# Altium schematic symbol library sch_lib_own_.SchLib: 40 symbols
Pins are listed as number, name and electrical type; pins without a type are passive.

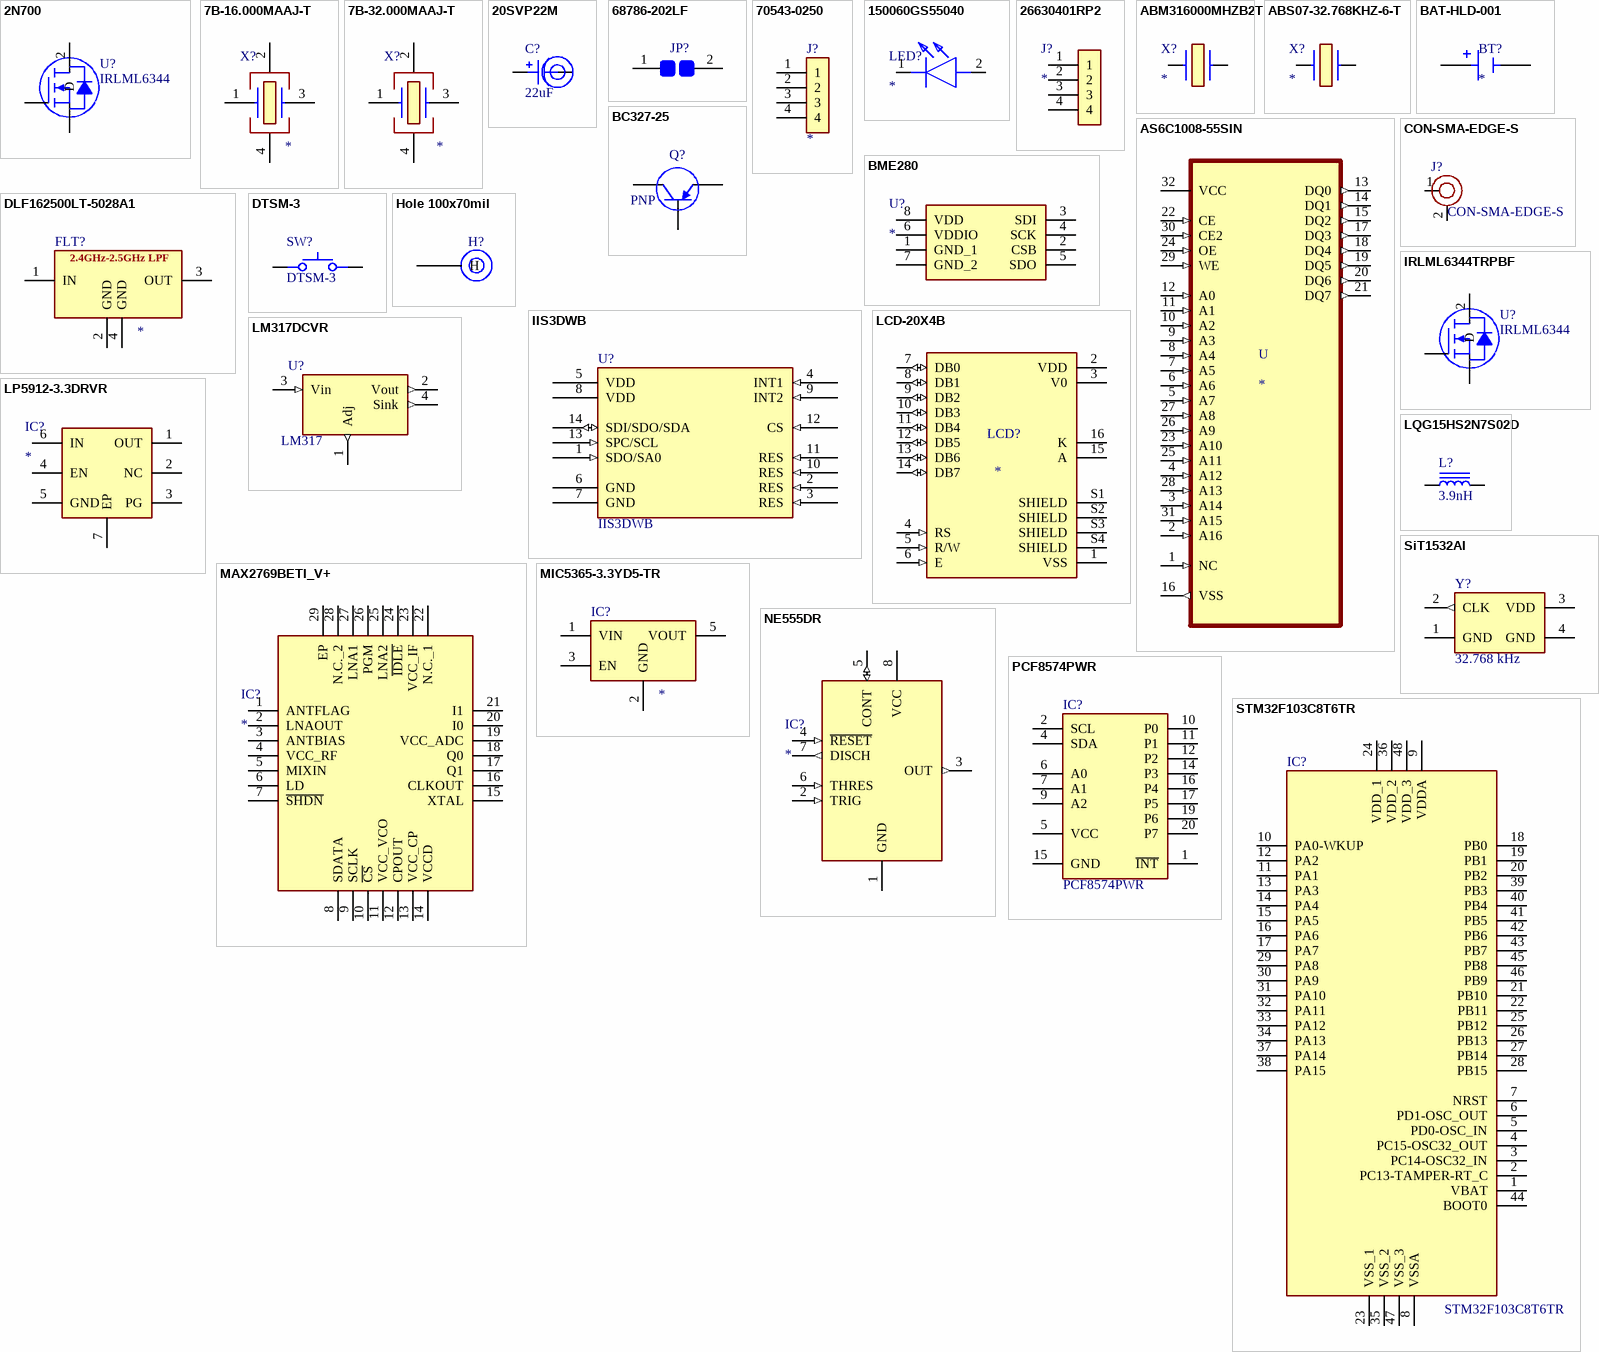
[diagram p0: symbols 2N700 to STM32F103C8T6TR]

## 2N700
designator U?, comment IRLML6344
N-Channel 60V 2A _Ta_ 400mW Surface Mount Micro SOT-23; MF: Infineon Technologies; MP: IRLML6344TRPBF; Package: SOT-23 Infineon; Value: *; Price: None; Availability: Unavailable; SnapEDA_Link: https://www.snapeda.com/parts/IRLML6344TRPBF/Infineon%20Technologies/view-part/1786730/?ref=snap
footprint SOT95P240X112-3N
pins: 1 G, 2 D, 3 S

## 7B-16.000MAAJ-T
designator X?
Crystals 16.000MHz 30ppm -20 +70C 18pF Crystal Oscillator; Manufacturer_Name: TXC CORPORATION; Manufacturer_Part_Number: 7B-16.000MAAJ-T; Datasheet Link: https://componentsearchengine.com/Datasheets/2/7B-16.000MAAJ-T.pdf; Height: 1.05mm; Mouser Part Number: 717-7B-16.000MAAJ-T; Mouser Price/Stock: https://www.mouser.com/Search/Refine.aspx?Keyword=717-7B-16.000MAAJ-T; Arrow Part Number: 7B-16.000MAAJ-T; Arrow Price/Stock: https://www.arrow.com/en/products/7b-16.000maaj-t/txc-corporation
footprint 7B16000MAAJT
pins: 1 CRYSTAL_1, 2 GND_1, 3 CRYSTAL_2, 4 GND_2

## 7B-32.000MAAJ-T
designator X?
Crystals 32.000MHz 30ppm -20 +70C 18pF Crystal Oscillator; Manufacturer_Name: TXC CORPORATION; Manufacturer_Part_Number: 7B-16.000MAAJ-T; Datasheet Link: https://componentsearchengine.com/Datasheets/2/7B-16.000MAAJ-T.pdf; Height: 1.05mm; Mouser Part Number: 717-7B-16.000MAAJ-T; Mouser Price/Stock: https://www.mouser.com/Search/Refine.aspx?Keyword=717-7B-16.000MAAJ-T; Arrow Part Number: 7B-16.000MAAJ-T; Arrow Price/Stock: https://www.arrow.com/en/products/7b-16.000maaj-t/txc-corporation
footprint 7B32000MAAJT
pins: 1 CRYSTAL_1, 2 GND_1, 3 CRYSTAL_2, 4 GND_2

## 20SVP22M
designator C?, comment 22uF
CAP POLYMER 4U7F 20% 16V SMD; Part Number: 20SVP22M; Manufacturer: Panasonic Electronic Components; TemperatureRange: -55C ~ 105C; Voltage: 20V; Ripple Current: 1.45A; Lifetime @ Temp: 2000 Hrs @ 105C; Value: 22uF; PartId: 7510; Supplier 1: Digi-Key; Supplier Part Number 1: P16492TR-ND; ComponentLink1Description: Datasheet; ComponentLink1URL: http://industrial.panasonic.com/www-cgi/jvcr13pz.cgi?E+CI+4+AAB8008+20SVP22M+8+WW; ComponentLink2Description: Digi-Key listing; ComponentLink2URL: http://digikey.com/product-detail/en/20SVP22M/P16492TR-ND/4204824; Tolerance: 20%; Price: 0.605; Type: -; Device Package: Radial, Can - SMD; Impedance: -
footprint CAP ALUM 6.6MM (Aluminum Electrolytic Capacitor, Body 6.60x6.60x7.70mm, IPC Low Density)
pins: 1, 2

## 68786-202LF
designator JP?  (value not drawn)
Jumper Low Profile , Single Row, 2 Positions, 2.54mm (0.100in) Pitch; MF: FCI; MP: 68786-202LF; SnapEDA_Link: https://www.snapeda.com/parts/68786-202LF/Framatome%20Connectors/view-part/4792913/?ref=snap; Price: None; Package: None; Value: *; Check_prices: https://www.snapeda.com/parts/68786-202LF/Framatome%20Connectors/view-part/4792913/?ref=eda; Purchase-URL: https://pricing.snapeda.com/search/part/68786-202LF/?ref=eda; Availability: Good
footprint FCI_68786-202LF
pins: 1, 2

## 70543-0250
designator J?
Connector 1X4 Headers & Wire Housings; Manufacturer_Name: Molex; Manufacturer_Part_Number: 70543-0250; Datasheet Link: https://www.molex.com/pdm_docs/sd/705430250_sd.pdf; Height: 11.94mm; Mouser Part Number: 538-70543-0250; Mouser Price/Stock: https://www.mouser.co.uk/ProductDetail/Molex/70543-0250?qs=kYQSPAH4sJy4tcb7Hig5SQ%3D%3D
footprint 705430250
pins: 1, 2, 3, 4

## 150060GS55040
designator LED?
LED SMD 0603 Green 520nm; Manufacturer_Name: Wurth Elektronik; Manufacturer_Part_Number: 150060GS55040; Datasheet Link: https://katalog.we-online.de/led/datasheet/150060GS55040.pdf; Height: 0.5mm; Mouser Part Number: 710-150060GS55040; Mouser Price/Stock: https://www.mouser.co.uk/ProductDetail/Wurth-Elektronik/150060GS55040?qs=fAHHVMwC%252Bbhr5Aln2oA6Nw%3D%3D
footprint LEDC1608X50N
pins: 1 K, 2 A

## 26630401RP2
designator J?
Connector 1X4; Manufacturer_Name: NorComp; Manufacturer_Part_Number: 26630401RP2; Datasheet Link: https://www.mouser.com/datasheet/2/296/2663YY01RP2-56146.pdf; Height: 5.5626mm; Mouser Part Number: 636-26630401RP2; Mouser Price/Stock: https://www.mouser.co.uk/ProductDetail/NorComp/26630401RP2?qs=TaIhzdgpGpUpNJHiLaUe4g%3D%3D
footprint 26630401RP2
pins: 1, 2, 3, 4

## ABM316000MHZB2T
designator X?
Crystal Oscillator 16 MHz ±20ppm 18pF 40 Ohms Crystal or Oscillator; Manufacturer_Name: ABRACON; Manufacturer_Part_Number: ABM316000MHZB2T; Datasheet Link: https://abracon.com/Resonators/abm3.pdf; Height: 1.3mm
footprint ABM3
pins: 1, 2

## ABS07-32.768KHZ-6-T
designator X?
Crystal Oscillator 32.768 kHz ±10ppm 6pF 50 KOhms Crystal or Oscillator; Manufacturer_Name: ABRACON; Manufacturer_Part_Number: ABM316000MHZB2T; Datasheet Link: https://abracon.com/Resonators/abm3.pdf; Height: 1.3mm
footprint ABM3
pins: 1, 2

## AS6C1008-55SIN
designator U
SRAM - Asynchronous Memory IC 1Mb _128K x 8_ Parallel 55ns 32-SOP; MP: AS6C1008-55SIN; MF: Alliance Memory,; Price: None; Package: SOP-32 Alliance Memory; Availability: Unavailable; SnapEDA_Link: https://www.snapeda.com/parts/AS6C1008-55SIN/Alliance%20Memory,%20Inc./view-part/31744/?ref=snap; Value: *
footprint SOIC127P1407X299-32N (Footprint not found)
footprint SOIC127P1407X299-32N
pins: 1 NC (in), 2 A16 (in), 3 A14 (in), 4 A12 (in), 5 A7 (in), 6 A6 (in), 7 A5 (in), 8 A4 (in), 9 A3 (in), 10 A2 (in), 11 A1 (in), 12 A0 (in), 13 DQ0 (out), 14 DQ1 (out), 15 DQ2 (out), 16 VSS (out), 17 DQ3 (out), 18 DQ4 (out), 19 DQ5 (out), 20 DQ6 (out), 21 DQ7 (out), 22 CE (in), 23 A10 (in), 24 OE (in), 25 A11 (in), 26 A9 (in), 27 A8 (in), 28 A13 (in), 29 WE (in), 30 CE2 (in), 31 A15 (in), 32 VCC (power)

## BAT-HLD-001
designator BT?
Battery Retainer Coin, 20.0mm 1 Cell SMD (SMT) Tab; MP: BAT-HLD-001; Value: *; Package: None; Availability: Unavailable; Price: None
footprint BAT_BAT-HLD-001
pins: N1 NEG, P1 POS, P2 POS

## BC327-25
designator Q?, comment PNP
PNP Bipolar Transistor; Published: 8-Jun-2000; LatestRevisionDate: 29-May-2009; LatestRevisionNote: IPC-7351 Footprint Added.; PackageVersion: Aug-1999; PackageReference: SOT-23B; Publisher: Altium Limited; PackageDescription: 3-Pin SOT-23 Package 0.95 mm Pitch, 2.4 mm Lead Span
footprint SOT-23B_N (SOT23, 3-Leads, Body 2.9x1.3mm, Pitch 0.95mm, Lead Span 2.4mm, IPC Medium Density)
footprint SOT-23B_L (SOT23, 3-Leads, Body 2.9x1.3mm, Pitch 0.95mm, Lead Span 2.4mm, IPC High Density)
footprint SOT-23B_M (SOT23, 3-Leads, Body 2.9x1.3mm, Pitch 0.95mm, Lead Span 2.4mm, IPC Low Density)
simulation model PNP
signal-integrity model PNP
footprint SOT-23B_N (SOT23, 3-Leads, Body 2.9x1.3mm, Pitch 0.95mm, Lead Span 2.4mm, IPC Medium Density)
pins: 1 C, 2 B, 3 E

## BME280
designator U?
MEMS humidity, pressure and temperature sensor
footprint BME280
pins: 1 GND_1, 2 CSB, 3 SDI, 4 SCK, 5 SDO, 6 VDDIO (power), 7 GND_2, 8 VDD (power)

## CON-SMA-EDGE-S
designator J?
RF Connector SMA Female 50 Ohms 18 GHz PCB Edge Mount; Manufacturer: RF Solutions; Manufacturer Part Number: CON-SMA-EDGE-S
footprint CON-SMA-EDGE-S
pins: 1, 2

## DLF162500LT-5028A1
designator FLT?
LTCC Low Pass filter 2400-2500MHz; Manufacturer_Name: TDK; Manufacturer_Part_Number: DLF162500LT-5028A1; Datasheet Link: https://product.tdk.com/system/files/dam/doc/product/rf/rf/filter/catalog/rf_lpf_dlf162500lt-5028a1_en.pdf; Height: 0.4mm; Mouser Part Number: 810-DLF16250LT5028A1; Mouser Price/Stock: https://www.mouser.co.uk/ProductDetail/TDK/DLF162500LT-5028A1?qs=U%2FZX79kHR%2FlwIbAISCs3qA%3D%3D; Arrow Part Number: DLF162500LT-5028A1; Arrow Price/Stock: null?region=nac
footprint DLF162500LT5028A1
pins: 1 IN, 2 GND, 3 OUT, 4 GND
text: 2.4GHz-2.5GHz LPF

## DTSM-3
designator SW?
Tactile Switch SMD SPST; Manufacturer: Diptronics; Manufacturer Part Number: DTSM-3
footprint DTSM-3
pins: 1, 2

## Hole 100x70mil
designator H?  (value not drawn)
100x70mil
footprint Hole 100x70mil
pins: 1 H (power)

## IIS3DWB
designator U?
3-axis digital vibration sensor
footprint PQFN50P250X300X86-14N
pins: 1 SDO/SA0 (in), 2 RES (in), 3 RES (in), 4 INT1 (in), 5 VDD, 6 GND, 7 GND, 8 VDD, 9 INT2 (in), 10 RES (in), 11 RES (in), 12 CS (in), 13 SPC/SCL (in), 14 SDI/SDO/SDA (io)

## IRLML6344TRPBF
designator U?, comment IRLML6344
N-Channel 30V 5A _Ta_ 1.3W _Ta_ Surface Mount Micro3â„¢/SOT-23; MF: Infineon Technologies; MP: IRLML6344TRPBF; Package: SOT-23 Infineon; Value: *; Price: None; Availability: Unavailable; SnapEDA_Link: https://www.snapeda.com/parts/IRLML6344TRPBF/Infineon%20Technologies/view-part/1786730/?ref=snap
footprint SOT95P240X112-3N
pins: 1 G, 2 D, 3 S

## LCD-20X4B
designator LCD?
Display Development Tools 20X4 CHARACTER BLUE LCD W/BACKLIGHT; MP: LCD-20X4B; Value: *; Availability: Unavailable; Price: None; Package: None
footprint LCD_LCD-20X4B
pins: 1 VSS (power), 2 VDD (power), 3 V0 (power), 4 RS (in), 5 R/W (in), 6 E (in), 7 DB0 (io), 8 DB1 (io), 9 DB2 (io), 10 DB3 (io), 11 DB4 (io), 12 DB5 (io), 13 DB6 (io), 14 DB7 (io), 15 A, 16 K, S1 SHIELD, S2 SHIELD, S3 SHIELD, S4 SHIELD

## LM317DCVR
designator U?, comment LM317
Adjustable voltage regulator, 1.5A, output range 1.25 - 37 V
footprint TI SOT-223 DCY (SOT223, 4-Leads, Body 6.50x7.00mm (avg), Pitch 2.30mm, IPC Medium Density)
pins: 1 Adj (out), 2 Vout (out), 3 Vin (in), 4 Sink (out)

## LP5912-3.3DRVR
designator IC?
IC Sensor TempHumPress 3.3V; Manufacturer_Name: Texas Instruments; Manufacturer_Part_Number: LP5912-3.3DRVR; Datasheet Link: http://www.ti.com/lit/gpn/lp5912; Height: 0.8mm; Mouser Part Number: 595-LP5912-3.3DRVR; Mouser Price/Stock: https://www.mouser.co.uk/ProductDetail/Texas-Instruments/LP5912-3.3DRVR?qs=n%252BTO0c4TDSY0RMrHlK%2FGvQ%3D%3D; Arrow Part Number: LP5912-3.3DRVR; Arrow Price/Stock: https://www.arrow.com/en/products/lp5912-3.3drvr/texas-instruments
footprint SON65P200X200X80-7N
pins: 1 OUT, 2 NC, 3 PG, 4 EN, 5 GND, 6 IN, 7 EP

## LQG15HS2N7S02D
designator L?, comment 3.9nH
FIXED IND 2.7NH 800MA 0.15OHM SM; Part Number: LQW15AN3N9D10D; Manufacturer: Murata Electronics North America; TemperatureRange: -55C ~ 125C; Tolerance: 0.5nH; Type: Wirewound; Q at Frequency: 30 @ 250MHz; DC Resistance: 40 mOhm Max; Shielding: Unshielded; Value: 3.9nH; PartId: 6435; Supplier 1: Digi-Key; Supplier Part Number 1: 490-6815-2-ND; ComponentLink1Description: Datasheet; ComponentLink1URL: http://search.murata.co.jp/Ceramy/image/img/PDF/ENG/L0075S0080LQW15A_10.pdf; ComponentLink2Description: Digi-Key listing; ComponentLink2URL: http://digikey.com/product-detail/en/LQW15AN3N9D10D/490-6815-2-ND/2594912; Price: 0.0843; Device Package: 0402 (1005 Metric)
footprint LQG15WH0N7B02D
pins: 1, 2

## MAX2769BETI_V+
designator IC?
IC Unverseal GPS Receiver; Manufacturer_Name: Maxim Integrated; Manufacturer_Part_Number: MAX2769BETI/V+; Datasheet Link: https://pdfserv.maximintegrated.com/en/ds/MAX2769B.pdf; Height: 0.8mm; Mouser Part Number: 700-MAX2769BETI/V+; Mouser Price/Stock: https://www.mouser.com/Search/Refine.aspx?Keyword=700-MAX2769BETI%2FV%2B
footprint QFN50P500X500X80-29N
footprint QFN50P500X500X80-29N
pins: 1 ANTFLAG, 2 LNAOUT, 3 ANTBIAS, 4 VCC_RF, 5 MIXIN, 6 LD, 7 ~{SHDN}, 8 SDATA, 9 SCLK, 10 ~{CS}, 11 VCC_VCO, 12 CPOUT, 13 VCC_CP, 14 VCCD, 15 XTAL, 16 CLKOUT, 17 Q1, 18 Q0, 19 VCC_ADC, 20 I0, 21 I1, 22 N.C._1, 23 VCC_IF, 24 ~{IDLE}, 25 LNA2, 26 PGM, 27 LNA1, 28 N.C._2, 29 EP

## MIC5365-3.3YD5-TR
designator IC?
Integrated Circuit; Manufacturer_Name: Microchip; Manufacturer_Part_Number: MIC5365-3.3YD5-TR; Datasheet Link: https://ww1.microchip.com/downloads/en/DeviceDoc/mic5365.pdf; Height: 1mm; Mouser Part Number: 998-MIC5365-3.3YD5TR; Mouser Price/Stock: https://www.mouser.co.uk/ProductDetail/Microchip-Technology/MIC5365-3.3YD5-TR?qs=U6T8BxXiZAXzRinbbfZRrg%3D%3D; Arrow Part Number: MIC5365-3.3YD5-TR; Arrow Price/Stock: https://www.arrow.com/en/products/mic5365-3.3yd5-tr/microchip-technology?region=nac
footprint SOT95P280X100-5N
pins: 1 VIN, 2 GND, 3 EN, 5 VOUT

## NE555DR
designator IC?
IC Timer/Oscillator (Single); Manufacturer_Name: Texas Instruments; Manufacturer_Part_Number: NE555DR; Datasheet Link: http://www.ti.com/lit/ds/symlink/ne555.pdf; Height: 1.75mm; Mouser Part Number: 595-NE555DR; Mouser Price/Stock: https://www.mouser.com/Search/Refine.aspx?Keyword=595-NE555DR; RS Part Number: 1218414; RS Price/Stock: http://uk.rs-online.com/web/p/products/1218414
footprint SOIC127P600X175-8N
pins: 1 GND (power), 2 TRIG (in), 3 OUT (out), 4 ~{RESET} (in), 5 CONT (io), 6 THRES (in), 7 DISCH (out), 8 VCC (power)

## PCF8574PWR
designator IC?
IC Input/output (I/O) expander; Manufacturer_Name: Texas Instruments; Datasheet Link: http://www.ti.com/lit/ds/symlink/pcf8574.pdf; Height: 1.2mm; Manufacturer_Part_Number: PCF8574PWR; Mouser Part Number: 595-PCF8574PWR; Mouser Price/Stock: https://www.mouser.co.uk/ProductDetail/Texas-Instruments/PCF8574PWR?qs=X1HXWTtiZ0T3gnyuO%2Fq4CA%3D%3D; Arrow Part Number: PCF8574PWR; Arrow Price/Stock: https://www.arrow.com/en/products/pcf8574pwr/texas-instruments?region=nac
footprint SOP65P640X120-20N
pins: 1 ~{INT}, 2 SCL, 4 SDA, 5 VCC, 6 A0, 7 A1, 9 A2, 10 P0, 11 P1, 12 P2, 14 P3, 15 GND, 16 P4, 17 P5, 19 P6, 20 P7

## SiT1532AI
designator Y?, comment 32.768 kHz
Oscilator 32.768KHz, SiT1532AI-J4-DCC-32.768E
footprint SiT1532AIJ4DCC32768E - duplicate
pins: 1 GND, 2 CLK (out), 3 VDD, 4 GND

## STM32F103C8T6TR
designator IC?
MCU 32BIT Cortex M3 USB 7 TIMERS 2 ADCS CAN; Manufacturer_Name: STMicroelectronics; Datasheet Link: http://media.digikey.com/pdf/Data%20Sheets/ST%20Microelectronics%20PDFS/STM32F103x8,B.pdf; Height: 1.6mm; Manufacturer_Part_Number: STM32F103C8T6TR; Mouser Part Number: 511-STM32F103C8T6TR; Mouser Price/Stock: https://www.mouser.co.uk/ProductDetail/STMicroelectronics/STM32F103C8T6TR?qs=5HwTSiuA5HDxFj62n06yag%3D%3D; Arrow Part Number: STM32F103C8T6TR; Arrow Price/Stock: https://www.arrow.com/en/products/stm32f103c8t6tr/stmicroelectronics?region=nac
footprint QFP50P900X900X160-48N
pins: 1 VBAT, 2 PC13-TAMPER-RT_C, 3 PC14-OSC32_IN, 4 PC15-OSC32_OUT, 5 PD0-OSC_IN, 6 PD1-OSC_OUT, 7 NRST, 8 VSSA, 9 VDDA, 10 PA0-WKUP, 11 PA1, 12 PA2, 13 PA3, 14 PA4, 15 PA5, 16 PA6, 17 PA7, 18 PB0, 19 PB1, 20 PB2, 21 PB10, 22 PB11, 23 VSS_1, 24 VDD_1, 25 PB12, 26 PB13, 27 PB14, 28 PB15, 29 PA8, 30 PA9, 31 PA10, 32 PA11, 33 PA12, 34 PA13, 35 VSS_2, 36 VDD_2, 37 PA14, 38 PA15, 39 PB3, 40 PB4, 41 PB5, 42 PB6, 43 PB7, 44 BOOT0, 45 PB8, 46 PB9, 47 VSS_3, 48 VDD_3

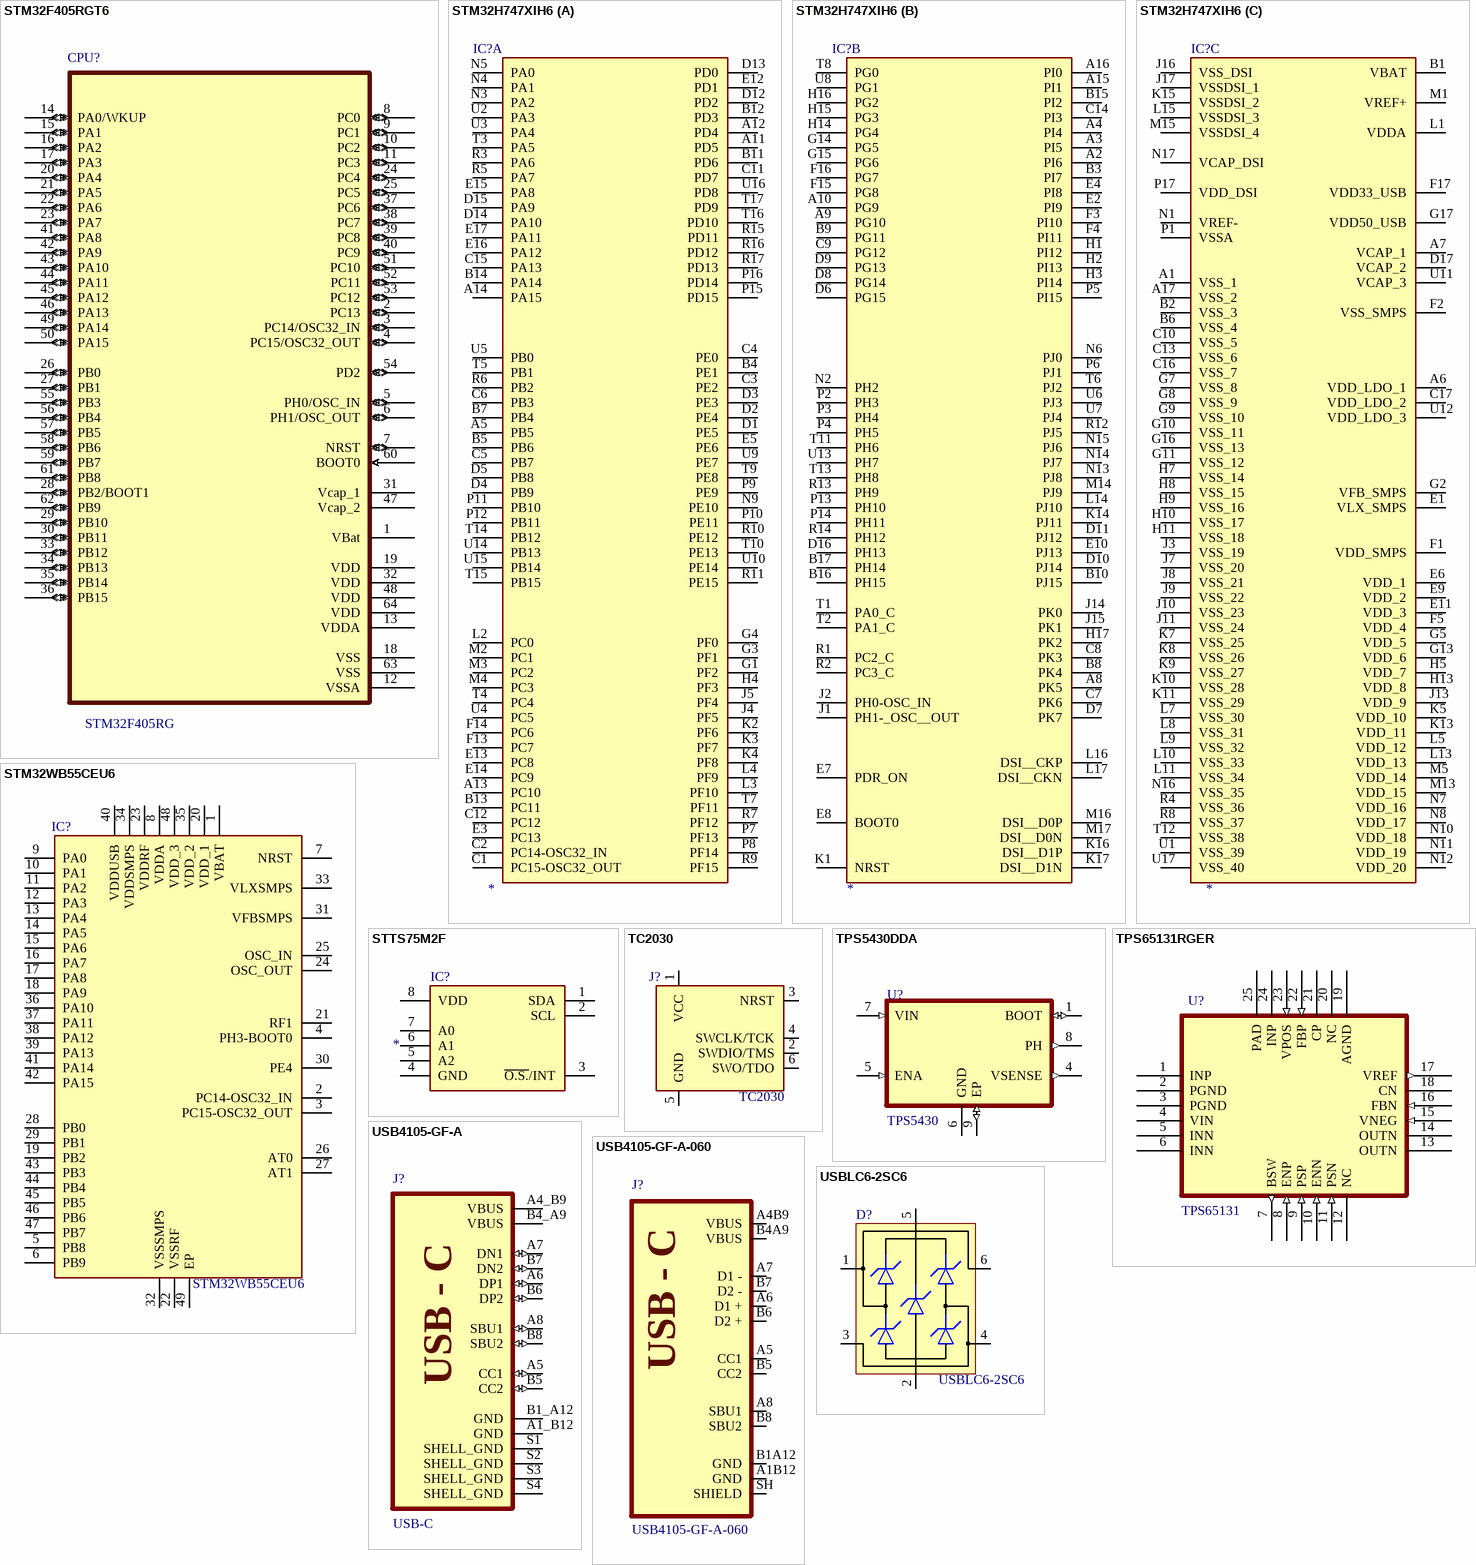
[diagram p1: symbols STM32F405RGT6 to USBLC6-2SC6]

## STM32F405RGT6
designator CPU?, comment STM32F405RG
ARM Microcontrollers - MCU ARM M4 1024 FLASH 168 Mhz 192kB SRAM
footprint LQF64
pins: 1 VBat, 2 PC13 (io), 3 PC14/OSC32_IN (io), 4 PC15/OSC32_OUT (io), 5 PH0/OSC_IN (io), 6 PH1/OSC_OUT (io), 7 NRST (io), 8 PC0 (io), 9 PC1 (io), 10 PC2 (io), 11 PC3 (io), 12 VSSA (power), 13 VDDA, 14 PA0/WKUP (io), 15 PA1 (io), 16 PA2 (io), 17 PA3 (io), 18 VSS, 19 VDD, 20 PA4 (io), 21 PA5 (io), 22 PA6 (io), 23 PA7 (io), 24 PC4 (io), 25 PC5 (io), 26 PB0 (io), 27 PB1 (io), 28 PB2/BOOT1 (io), 29 PB10 (io), 30 PB11 (io), 31 Vcap_1 (power), 32 VDD, 33 PB12 (io), 34 PB13 (io), 35 PB14 (io), 36 PB15 (io), 37 PC6 (io), 38 PC7 (io), 39 PC8 (io), 40 PC9 (io), 41 PA8 (io), 42 PA9 (io), 43 PA10 (io), 44 PA11 (io), 45 PA12 (io), 46 PA13 (io), 47 Vcap_2, 48 VDD, 49 PA14 (io), 50 PA15 (io), 51 PC10 (io), 52 PC11 (io), 53 PC12 (io), 54 PD2 (io), 55 PB3 (io), 56 PB4 (io), 57 PB5 (io), 58 PB6 (io), 59 PB7 (io), 60 BOOT0 (in), 61 PB8 (io), 62 PB9 (io), 63 VSS, 64 VDD

## STM32H747XIH6
designator IC?
CPU Dual core. • 32-bit Arm® Cortex®-M7; Manufacturer_Name: STMicroelectronics; Manufacturer_Part_Number: STM32H747XIH6; Datasheet Link: https://www.st.com/en/microcontrollers-microprocessors/stm32h747xi.html; Height: 1.1mm; Mouser Part Number: 511-STM32H747XIH6; Mouser Price/Stock: https://www.mouser.co.uk/ProductDetail/STMicroelectronics/STM32H747XIH6?qs=vLWxofP3U2xQGncZcDDLHQ%3D%3D; Arrow Part Number: STM32H747XIH6; Arrow Price/Stock: https://www.arrow.com/en/products/stm32h747xih6/stmicroelectronics?region=nac
footprint BGA265C80P17X17_1400X1400X110
part A pins: A5 PB5, A11 PD5, A12 PD4, A13 PC10, A14 PA15, B4 PE1, B5 PB6, B7 PB4, B11 PD6, B12 PD3, B13 PC11, B14 PA14, C1 PC15-OSC32_OUT, C2 PC14-OSC32_IN, C3 PE2, C4 PE0, C5 PB7, C6 PB3, C11 PD7, C12 PC12, C15 PA13, D1 PE5, D2 PE4, D3 PE3, D4 PB9, D5 PB8, D12 PD2, D13 PD0, D14 PA10, D15 PA9, E3 PC13, E5 PE6, E12 PD1, E13 PC8, E14 PC9, E15 PA8, E16 PA12, E17 PA11, F13 PC7, F14 PC6, G1 PF2, G3 PF1, G4 PF0, H4 PF3, J4 PF5, J5 PF4, K2 PF6, K3 PF7, K4 PF8, L2 PC0, L3 PF10, L4 PF9, M2 PC1, M3 PC2, M4 PC3, N3 PA2, N4 PA1, N5 PA0, N9 PE10, P7 PF13, P8 PF14, P9 PE9, P10 PE11, P11 PB10, P12 PB11, P15 PD15, P16 PD14, R3 PA6, R5 PA7, R6 PB2, R7 PF12, R9 PF15, R10 PE12, R11 PE15, R15 PD11, R16 PD12, R17 PD13, T3 PA5, T4 PC4, T5 PB1, T7 PF11, T9 PE8, T10 PE13, T14 PB12, T15 PB15, T16 PD10, T17 PD9, U2 PA3, U3 PA4, U4 PC5, U5 PB0, U9 PE7, U10 PE14, U14 PB13, U15 PB14, U16 PD8
part B pins: A2 PI6, A3 PI5, A4 PI4, A8 PK5, A9 PG10, A10 PG9, A15 PI1, A16 PI0, B3 PI7, B8 PK4, B9 PG11, B10 PJ15, B15 PI2, B16 PH15, B17 PH14, C7 PK6, C8 PK3, C9 PG12, C14 PI3, D6 PG15, D7 PK7, D8 PG14, D9 PG13, D10 PJ14, D11 PJ12, D16 PH13, E2 PI9, E4 PI8, E7 PDR_ON, E8 BOOT0, E10 PJ13, F3 PI10, F4 PI11, F15 PG8, F16 PG7, G14 PG5, G15 PG6, H1 PI12, H2 PI13, H3 PI14, H14 PG4, H15 PG3, H16 PG2, H17 PK2, J1 PH1-_OSC__OUT, J2 PH0-OSC_IN, J14 PK0, J15 PK1, K1 NRST, K14 PJ11, K16 DSI__D1P, K17 DSI__D1N, L14 PJ10, L16 DSI__CKP, L17 DSI__CKN, M14 PJ9, M16 DSI__D0P, M17 DSI__D0N, N2 PH2, N6 PJ0, N13 PJ8, N14 PJ7, N15 PJ6, P2 PH3, P3 PH4, P4 PH5, P5 PI15, P6 PJ1, P13 PH10, P14 PH11, R1 PC2_C, R2 PC3_C, R12 PJ5, R13 PH9, R14 PH12, T1 PA0_C, T2 PA1_C, T6 PJ2, T8 PG0, T11 PH6, T13 PH8, U6 PJ3, U7 PJ4, U8 PG1, U13 PH7
part C pins: A1 VSS_1, A6 VDD_LDO_1, A7 VCAP_1, A17 VSS_2, B1 VBAT, B2 VSS_3, B6 VSS_4, C10 VSS_5, C13 VSS_6, C16 VSS_7, C17 VDD_LDO_2, D17 VCAP_2, E1 VLX_SMPS, E6 VDD_1, E9 VDD_2, E11 VDD_3, F1 VDD_SMPS, F2 VSS_SMPS, F5 VDD_4, F17 VDD33_USB, G2 VFB_SMPS, G5 VDD_5, G7 VSS_8, G8 VSS_9, G9 VSS_10, G10 VSS_11, G11 VSS_12, G13 VDD_6, G16 VSS_13, G17 VDD50_USB, H5 VDD_7, H7 VSS_14, H8 VSS_15, H9 VSS_16, H10 VSS_17, H11 VSS_18, H13 VDD_8, J3 VSS_19, J7 VSS_20, J8 VSS_21, J9 VSS_22, J10 VSS_23, J11 VSS_24, J13 VDD_9, J16 VSS_DSI, J17 VSSDSI_1, K5 VDD_10, K7 VSS_25, K8 VSS_26, K9 VSS_27, K10 VSS_28, K11 VSS_29, K13 VDD_11, K15 VSSDSI_2, L1 VDDA, L5 VDD_12, L7 VSS_30, L8 VSS_31, L9 VSS_32, L10 VSS_33, L11 VSS_34, L13 VDD_13, L15 VSSDSI_3, M1 VREF+, M5 VDD_14, M13 VDD_15, M15 VSSDSI_4, N1 VREF-, N7 VDD_16, N8 VDD_17, N10 VDD_18, N11 VDD_19, N12 VDD_20, N16 VSS_35, N17 VCAP_DSI, P1 VSSA, P17 VDD_DSI, R4 VSS_36, R8 VSS_37, T12 VSS_38, U1 VSS_39, U11 VCAP_3, U12 VDD_LDO_3, U17 VSS_40

## STM32WB55CEU6
designator IC?
MCU Ultra-low-power dual core Arm Cortex-M4 MCU 64 MHz, Cortex-M0+ 32 MHz 512 Kbytes, RF Microcontrollers; Manufacturer_Name: STMicroelectronics; Datasheet Link: https://www.st.com/resource/en/datasheet/stm32wb55rg.pdf; Height: 0.65mm; Manufacturer_Part_Number: STM32WB55CEU6; Mouser Part Number: 511-STM32WB55CEU6; Mouser Price/Stock: https://www.mouser.co.uk/ProductDetail/STMicroelectronics/STM32WB55CEU6?qs=l7cgNqFNU1h38DnIgipayw%3D%3D; Arrow Part Number: STM32WB55CEU6; Arrow Price/Stock: https://www.arrow.com/en/products/stm32wb55ceu6/stmicroelectronics?region=nac
footprint QFN50P700X700X65-49N-D
pins: 1 VBAT, 2 PC14-OSC32_IN, 3 PC15-OSC32_OUT, 4 PH3-BOOT0, 5 PB8, 6 PB9, 7 NRST, 8 VDDA, 9 PA0, 10 PA1, 11 PA2, 12 PA3, 13 PA4, 14 PA5, 15 PA6, 16 PA7, 17 PA8 (power), 18 PA9, 19 PB2, 20 VDD_1, 21 RF1, 22 VSSRF, 23 VDDRF, 24 OSC_OUT, 25 OSC_IN, 26 AT0, 27 AT1, 28 PB0, 29 PB1, 30 PE4, 31 VFBSMPS, 32 VSSSMPS, 33 VLXSMPS, 34 VDDSMPS, 35 VDD_2, 36 PA10, 37 PA11, 38 PA12, 39 PA13, 40 VDDUSB, 41 PA14, 42 PA15, 43 PB3, 44 PB4, 45 PB5, 46 PB6, 47 PB7, 48 VDD_3, 49 EP

## STTS75M2F
designator IC?
IC Temperature sensor; Manufacturer_Name: STMicroelectronics; Manufacturer_Part_Number: STTS75M2F; Datasheet Link: http://www.st.com/st-web-ui/static/active/en/resource/technical/document/datasheet/CD00153513.pdf; Height: 1.75mm; Mouser Part Number: 511-STTS75M2F; Mouser Price/Stock: https://www.mouser.com/Search/Refine.aspx?Keyword=511-STTS75M2F; Arrow Part Number: STTS75M2F; Arrow Price/Stock: https://www.arrow.com/en/products/stts75m2f/stmicroelectronics
footprint SOIC127P600X175-8N
footprint SOIC127P600X175-8N
pins: 1 SDA, 2 SCL, 3 ~{O.S.}/INT, 4 GND, 5 A2, 6 A1, 7 A0, 8 VDD

## TC2030
designator J?  (no BOM)
Tag-Connect No-Solder SWD Debug Connector DO NOT PLACE; Manufacturer: Tag-Connect; Manufacturer Part Number: TC2030
footprint TC2030-FP
pins: 1 VCC, 2 SWDIO/TMS, 3 NRST, 4 SWCLK/TCK, 5 GND, 6 SWO/TDO

## TPS5430DDA
designator U?, comment TPS5430
CONVERTER 5.5V-36 to 5.5V; MF: Texas Instruments; MP: TPS5430DDA; Availability: Unavailable; Mouser-Purchase-URL: https://snapeda.com/shop?store=Mouser&id=226174; Texas_Instruments-Purchase-URL: https://snapeda.com/shop?store=Texas+Instruments&id=226174; Package: HSOIC-8 Texas Instruments; Price: None; SnapEDA_Link: https://www.snapeda.com/parts/TPS5430DDA/Texas%20Instruments/view-part/226174/?ref=snap; DigiKey-Purchase-URL: https://snapeda.com/shop?store=DigiKey&id=226174; Value: *
footprint VREG_LM5017MR/NOPB
pins: 1 BOOT (io), 4 VSENSE (out), 5 ENA (in), 6 GND (power), 7 VIN (in), 8 PH (out), 9 EP (io)

## TPS65131RGER
designator U?, comment TPS65131
Split-Rail Converter with Dual, Positive and Negative Outputs (750mA typ); MF: Texas Instruments; MP: TPS65131RGER; Purchase-URL: https://pricing.snapeda.com/search/part/TPS65131RGER/?ref=eda; Package: QFN-24 Texas Instruments; Availability: In Stock; Check_prices: https://www.snapeda.com/parts/TPS65131RGER/Texas+Instruments/view-part/?ref=eda; Price: None; SnapEDA_Link: https://www.snapeda.com/parts/TPS65131RGER/Texas+Instruments/view-part/?ref=snap; Value: *
footprint VQFN24
pins: 1 INP (power), 2 PGND (power), 3 PGND (power), 4 VIN (power), 5 INN (power), 6 INN (power), 7 BSW (out), 8 ENP (in), 9 PSP (in), 10 ENN (in), 11 PSN (in), 12 NC, 13 OUTN (power), 14 OUTN (power), 15 VNEG (in), 16 FBN (in), 17 VREF (out), 18 CN, 19 AGND (power), 20 NC, 21 CP, 22 FBP (in), 23 VPOS (in), 24 INP (power), 25 PAD (power)

## USB4105-GF-A
designator J?, comment USB-C
USB-C (USB TYPE-C) USB 2.0 Receptacle Connector 24 (16+8 Dummy) Position Surface Mount, Right Angle; Through Hole; MP: USB4105-GF-A; Value: *; Availability: Unavailable; Price: None; Package: None
footprint GCT_USB4105-GF-A
pins: A1_B12 GND (power), A4_B9 VBUS (power), A5 CC1 (io), A6 DP1 (io), A7 DN1 (io), A8 SBU1 (io), B1_A12 GND (power), B4_A9 VBUS (power), B5 CC2 (io), B6 DP2 (io), B7 DN2 (io), B8 SBU2 (io), S1 SHELL_GND (power), S2 SHELL_GND (power), S3 SHELL_GND (power), S4 SHELL_GND (power)
text: USB - C

## USB4105-GF-A-060
designator J?
USB Connector Type C SMT 12 Pin; Manufacturer: GCT; Manufacturer Part Number: USB4105-GF-A-060; Distributor Link: https://eu.mouser.com/ProductDetail/GCT/USB4105-GF-A-060?qs=QNEnbhJQKvY2mocwNJzgfA%3D%3D
footprint USB4105-GF-A-060
pins: A1B12 GND, A4B9 VBUS, A5 CC1, A6 D1 +, A7 D1 -, A8 SBU1, B1A12 GND, B4A9 VBUS, B5 CC2, B6 D2 +, B7 D2 -, B8 SBU2, SH SHIELD
text: USB - C

## USBLC6-2SC6
designator D?
Low-Capacitance ESD Protection USB; Manufacturer: STMicroelectronics; Manufacturer Part Number: USBLC6-2SC6; Distributor Link: https://www.mouser.de/ProductDetail/STMicroelectronics/USBLC6-2SC6?qs=po45yt2pPpu%2FhNIlwQdTlg%3D%3D
footprint SOT-23-6
pins: 1 IO1 (io), 2 GND (power), 3 IO2 (io), 4 IO2 (io), 5 VBUS (power), 6 IO1 (io)